# Altium schematic symbol library MT6205B.SchLib: 1 symbol
Pins are listed as number, name and electrical type; pins without a type are passive.

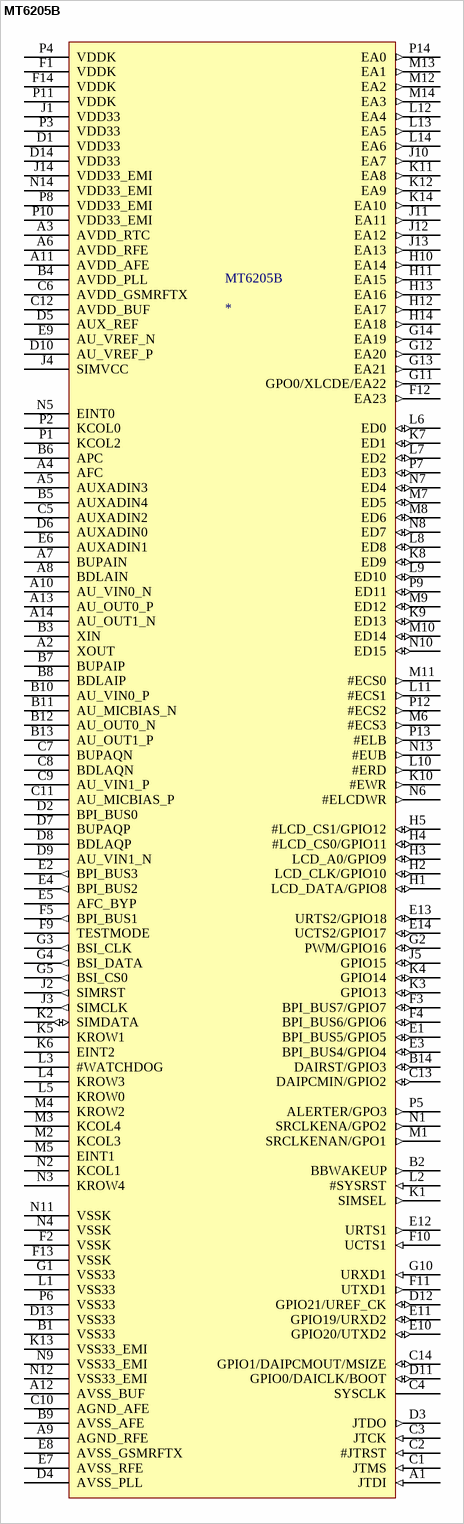
[diagram p0: symbol MT6205B]

## MT6205B
designator MT6205B
footprint MT6205B (BGA, 181-Leads, Body 12,00x12,00mmx1,40mm, Pitch 0,80mm)
pins: A1 JTDI (in), A2 XOUT, A3 AVDD_RTC, A4 AFC, A5 AUXADIN3, A6 AVDD_RFE, A7 BUPAIN, A8 BDLAIN, A9 AGND_RFE, A10 AU_VIN0_N, A11 AVDD_AFE, A12 AVSS_BUF, A13 AU_OUT0_P, A14 AU_OUT1_N, B1 VSS33, B2 BBWAKEUP (out), B3 XIN, B4 AVDD_PLL, B5 AUXADIN4, B6 APC, B7 BUPAIP, B8 BDLAIP, B9 AVSS_AFE, B10 AU_VIN0_P, B11 AU_MICBIAS_N, B12 AU_OUT0_N, B13 AU_OUT1_P, B14 DAIRST/GPIO3 (io), C1 JTMS (in), C2 #JTRST (in), C3 JTCK (in), C4 SYSCLK, C5 AUXADIN2, C6 AVDD_GSMRFTX, C7 BUPAQN, C8 BDLAQN, C9 AU_VIN1_P, C10 AGND_AFE, C11 AU_MICBIAS_P, C12 AVDD_BUF, C13 DAIPCMIN/GPIO2 (io), C14 GPIO1/DAIPCMOUT/MSIZE (io), D1 VDD33, D2 BPI_BUS0, D3 JTDO (out), D4 AVSS_PLL, D5 AUX_REF, D6 AUXADIN0, D7 BUPAQP, D8 BDLAQP, D9 AU_VIN1_N, D10 AU_VREF_P, D11 GPIO0/DAICLK/BOOT (io), D12 GPIO21/UREF_CK (io), D13 VSS33, D14 VDD33, E1 BPI_BUS5/GPIO5 (io), E2 BPI_BUS3 (out), E3 BPI_BUS4/GPIO4 (io), E4 BPI_BUS2 (out), E5 AFC_BYP, E6 AUXADIN1, E7 AVSS_RFE, E8 AVSS_GSMRFTX, E9 AU_VREF_N, E10 GPIO20/UTXD2 (io), E11 GPIO19/URXD2 (io), E12 URTS1 (out), E13 URTS2/GPIO18 (io), E14 UCTS2/GPIO17 (io), F1 VDDK, F2 VSSK, F3 BPI_BUS7/GPIO7 (io), F4 BPI_BUS6/GPIO6 (io), F5 BPI_BUS1 (out), F9 TESTMODE, F10 UCTS1 (in), F11 UTXD1 (out), F12 EA23 (out), F13 VSSK, F14 VDDK, G1 VSS33, G2 PWM/GPIO16 (io), G3 BSI_CLK (out), G4 BSI_DATA (out), G5 BSI_CS0 (out), G10 URXD1 (in), G11 GPO0/XLCDE/EA22 (out), G12 EA20 (out), G13 EA21 (out), G14 EA19 (out), H1 LCD_DATA/GPIO8 (io), H2 LCD_CLK/GPIO10 (io), H3 LCD_A0/GPIO9 (io), H4 #LCD_CS0/GPIO11 (io), H5 #LCD_CS1/GPIO12 (io), H10 EA14 (out), H11 EA15 (out), H12 EA17 (out), H13 EA16 (out), H14 EA18 (out), J1 VDD33, J2 SIMRST (out), J3 SIMCLK (out), J4 SIMVCC, J5 GPIO15 (io), J10 EA7 (out), J11 EA11 (out), J12 EA12 (out), J13 EA13 (out), J14 VDD33_EMI, K1 SIMSEL (out), K2 SIMDATA (io), K3 GPIO13 (io), K4 GPIO14 (io), K5 KROW1, K6 EINT2, K7 ED1 (io), K8 ED9 (io), K9 ED13 (io), K10 #EWR (out), K11 EA8 (out), K12 EA9 (out), K13 VSS33_EMI, K14 EA10 (out), L1 VSS33, L2 #SYSRST (in), L3 #WATCHDOG, L4 KROW3, L5 KROW0, L6 ED0 (io), L7 ED2 (io), L8 ED8 (io), L9 ED10 (io), L10 #ERD (out), L11 #ECS1 (out), L12 EA4 (out), L13 EA5 (out), L14 EA6 (out), M1 SRCLKENAN/GPO1 (out), M2 KCOL3, M3 KCOL4, M4 KROW2, M5 EINT1, M6 #ECS3 (out), M7 ED5 (io), M8 ED6 (io), M9 ED12 (io), M10 ED14 (io), M11 #ECS0 (out), M12 EA2 (out), M13 EA1 (out), M14 EA3 (out), N1 SRCLKENA/GPO2 (out), N2 KCOL1, N3 KROW4, N4 VSSK, N5 EINT0, N6 #ELCDWR (out), N7 ED4 (io), N8 ED7 (io), N9 VSS33_EMI, N10 ED15 (io), N11 VSSK, N12 VSS33_EMI, N13 #EUB (out), N14 VDD33_EMI, P1 KCOL2, P2 KCOL0, P3 VDD33, P4 VDDK, P5 ALERTER/GPO3 (out), P6 VSS33, P7 ED3 (io), P8 VDD33_EMI, P9 ED11 (io), P10 VDD33_EMI, P11 VDDK, P12 #ECS2 (out), P13 #ELB (out), P14 EA0 (out)